# Altium schematic symbol library RPSLib_ADC_DAC.SchLib: 6 symbols
Pins are listed as number, name and electrical type; pins without a type are passive.

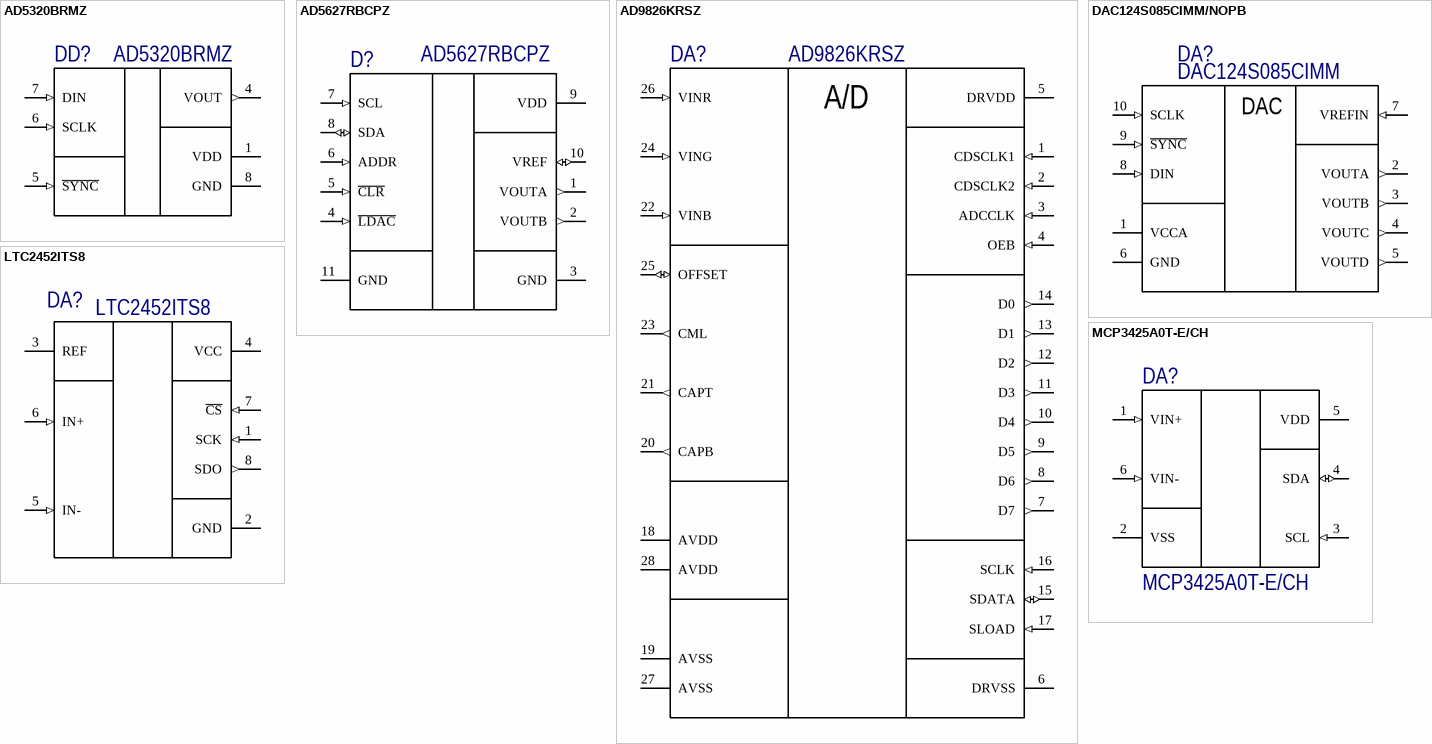
[diagram p0: symbols AD5320BRMZ to MCP3425A0T-E/CH]

## AD5320BRMZ
designator DD?
DAC 1-CH Resistor-String 12-bit 8-Pin MSOP Tube; Manufacturer: Analog Devices; Settling Time: 8us; Resolution: 12b; Integral Nonlinearity (INL): 16LSB; Conversion Rate: 125KS/s; Output Type: Voltage; Max Power Dissipation: 345uW; Interface: SPI,Serial; Number of Bits: 12; Number of Converters: 1; Max Supply Voltage: 5.5V; Min Supply Voltage: 2.7V; Differential Output: No; Slew Rate: 1V/µs; Polarity: Unipolar; Operating Supply Voltage: 5V; Nominal Supply Current: 140uA; Supplier 1: Digi-Key; Manufacturer Part Number: AD5320BRMZ; Stock 1: 186; Pricing 1: 1=7,04000, 10=6,36400, 25=6,06800, 100=5,26880, 250=5,03200, 500=4,58800, 1000=4,14400 (USD); RoHS: Yes; Case/Package: MSOP; Number of Pins: 8; Contact Plating: Tin,Matte; Min Operating Temperature: -40°C; Max Operating Temperature: 105°C; Packaging: Rail/Tube; Package Quantity: 50; Number of Channels: 1; Number of D/A Converters: 1; Sampling Rate: 125KS/s; Max Input Voltage: 5.5V; Min Input Voltage: 2.7V; Max Output Voltage: 5.5V; Min Output Voltage: 2.7V; Number of DAC Channels: 1; Number of Outputs: 1; Length: 3mm; Height: 0.85mm; Width: 3mm; Radiation Hardening: No; Lead Free: Contains Lead; REACH SVHC: No SVHC; ComponentLink1URL: https://datasheet.ciiva.com/26803/ad5320brmz-26803200.pdf?src-supplier=IIIC; ComponentLink1Description: https://datasheet.ciiva.com/26803/ad5320brmz-26803200.pdf?src-supplier=IIIC; ComponentLink2URL: https://datasheet.ciiva.com/1142/81071-1142242.pdf?src-supplier=Element14; ComponentLink2Description: https://datasheet.ciiva.com/1142/81071-1142242.pdf?src-supplier=Element14; ComponentLink3URL: https://datasheet.ciiva.com/1361/ad5320-1361204.pdf?src-supplier=Digi-Key; ComponentLink3Description: https://datasheet.ciiva.com/1361/ad5320-1361204.pdf?src-supplier=Digi-Key; ComponentLink4URL: https://datasheet.ciiva.com/25918/ad5320-25918166.pdf?src-supplier=Avnet+Europe; ComponentLink4Description: https://datasheet.ciiva.com/25918/ad5320-25918166.pdf?src-supplier=Avnet+Europe; ComponentLink5URL: https://datasheet.ciiva.com/3040/ad5320-3040255.pdf?src-supplier=Avnet; ComponentLink5Description: https://datasheet.ciiva.com/3040/ad5320-3040255.pdf?src-supplier=Avnet; ComponentLink6URL: https://datasheet.ciiva.com/48705/001246331-da-01-en-ic-dac-12bit-r-r-w-ad5320brmz-msop-8-adi-48705285.pdf?src-supplier=Conrad; ComponentLink6Description: https://datasheet.ciiva.com/48705/001246331-da-01-en-ic-dac-12bit-r-r-w-ad5320brmz-msop-8-adi-48705285.pdf?src-supplier=Conrad; Supplier Part Number 1: AD5320BRMZ-ND
footprint TSOP65P490X110-8N (TSOP, 8-Leads, Body 3,00x3,00mm, Pitch 0,65mm, IPC Medium Density)
pins: 1 VDD (power), 4 VOUT (out), 5 ~{SYNC} (in), 6 SCLK (in), 7 DIN (in), 8 GND (power)

## AD5627RBCPZ
designator D?
DAC 2-CH Resistor-String 12-bit 10-Pin LFCSP EP T/R; Manufacturer: Analog Devices; Manufacturer Part Number: AD5627RBCPZ-REEL7; Settling Time: 3us; Resolution: 12b; Conversion Rate: 333KS/s; Integral Nonlinearity (INL): 1LSB; Output Type: Voltage; Max Power Dissipation: 5.75mW; Number of DAC Channels: 2; Interface: I2C,Serial,2-Wire; Max Supply Voltage: 5.5V; Min Supply Voltage: 2.7V; Number of Bits: 12; Differential Output: No; Power Dissipation: 6.3mW; Min Output Voltage: 0uV; Slew Rate: 1.8V/µs; IIC Address: 00011aa; Supplier 1: Digi-Key; RoHS: Yes; Category: Digital to Analog Converters (DACs); Stock 1: 1366; Pricing 1: 1=6,55000, 10=5,88300, 25=5,56200, 100=4,57320, 250=4,10352, 500=3,95520 (USD); Case/Package: LFCSP EP; Number of Pins: 10; Min Operating Temperature: -40°C; Max Operating Temperature: 105°C; Package Quantity: 1500; Number of Channels: 2; Packaging: Tape and Reel; Number of D/A Converters: 2; Number of Converters: 2; Sampling Rate: 333KS/s; Max Input Voltage: 5.5V; Min Input Voltage: 2.7V; Max Output Voltage: 5.5V; REACH SVHC: No SVHC; Lead Free: Contains Lead; ComponentLink1URL: https://datasheet.ciiva.com/26805/ad5627rbcpz-reel7-26805947.pdf?src-supplier=IIIC; ComponentLink1Description: https://datasheet.ciiva.com/26805/ad5627rbcpz-reel7-26805947.pdf?src-supplier=IIIC; ComponentLink2URL: https://datasheet.ciiva.com/16599/ad5627r-5647r-5667r-5627-5667-16599173.pdf?src-supplier=Avnet+Europe; ComponentLink2Description: https://datasheet.ciiva.com/16599/ad5627r-5647r-5667r-5627-5667-16599173.pdf?src-supplier=Avnet+Europe; ComponentLink3URL: https://datasheet.ciiva.com/8191/ad5627r-5647r-5667r-5627-5667-8191870.pdf?src-supplier=Avnet; ComponentLink3Description: https://datasheet.ciiva.com/8191/ad5627r-5647r-5667r-5627-5667-8191870.pdf?src-supplier=Avnet; Supplier Part Number 1: AD5627RBCPZ-REEL7CT-ND
footprint SON50P300X80_HS-11N (SON, 10-Leads, Body 3,00x3,00mm, Pitch 0,50mm, Thermal Pad 2,36x1,49mm, IPC Medium Density)
pins: 1 VOUTA (out), 2 VOUTB (out), 3 GND (power), 4 ~{LDAC} (in), 5 ~{CLR} (in), 6 ADDR (in), 7 SCL (in), 8 SDA (io), 9 VDD, 10 VREF (io), 11 GND (power)

## AD9826KRSZ
designator DA?
IC IMAGE SGNL PROC 16BIT 28-SSOP; Manufacturer: Analog Devices; Operating Supply Voltage: 5V; Interface: Serial,Parallel; Resolution: 16b; Sampling Rate: 15MS/s; Number of Channels: 3; Max Supply Voltage: 5.25V; Min Supply Voltage: 4.75V; Number of A/D Converters: 1; Max Power Dissipation: 400mW; Differential Nonlinearity: 0.5LSB; Operating Supply Current: 80mA; Supplier 1: Digi-Key; Manufacturer Part Number: AD9826KRSZ; RoHS: Yes; Category: Optoelectronics; Stock 1: 1366; Pricing 1: 1=12,18000, 10=11,19400, 25=10,73000, 100=9,45400, 250=8,99000, 500=8,41000, 1000=7,83000 (USD); Mount: Surface Mount; Case/Package: SSOP; Number of Pins: 28; Min Operating Temperature: -40°C; Max Operating Temperature: 85°C; Packaging: Rail/Tube; Number of Converters: 1; Power Dissipation: 400mW; Package Quantity: 47; Length: 10.2mm; Height: 1.75mm; Width: 5.3mm; Radiation Hardening: No; Lead Free: Contains Lead; REACH SVHC: No SVHC; ComponentLink1URL: https://datasheet.ciiva.com/1611/ad9826-1611698.pdf?src-supplier=Newark; ComponentLink1Description: https://datasheet.ciiva.com/1611/ad9826-1611698.pdf?src-supplier=Newark; ComponentLink2URL: https://datasheet.ciiva.com/15373/ad9826-243709-15373659.pdf?src-supplier=Mouser; ComponentLink2Description: https://datasheet.ciiva.com/15373/ad9826-243709-15373659.pdf?src-supplier=Mouser; ComponentLink3URL: https://datasheet.ciiva.com/26838/ad9826krsz-26838956.pdf?src-supplier=IIIC; ComponentLink3Description: https://datasheet.ciiva.com/26838/ad9826krsz-26838956.pdf?src-supplier=IIIC; ComponentLink4URL: https://datasheet.ciiva.com/3026/ad9826-3026380.pdf?src-supplier=Avnet; ComponentLink4Description: https://datasheet.ciiva.com/3026/ad9826-3026380.pdf?src-supplier=Avnet; ComponentLink5URL: https://datasheet.ciiva.com/1781/ad9826-1781614.pdf?src-supplier=Digi-Key; ComponentLink5Description: https://datasheet.ciiva.com/1781/ad9826-1781614.pdf?src-supplier=Digi-Key; Supplier Part Number 1: AD9826KRSZ-ND
footprint SOP65P780X200-28N (SOP, 28-Leads, Body 10,20x5,30mm, Pitch 0,65mm, IPC Medium Density)
pins: 1 CDSCLK1 (in), 2 CDSCLK2 (in), 3 ADCCLK (in), 4 OEB (in), 5 DRVDD (power), 6 DRVSS (power), 7 D7 (out), 8 D6 (out), 9 D5 (out), 10 D4 (out), 11 D3 (out), 12 D2 (out), 13 D1 (out), 14 D0 (out), 15 SDATA (io), 16 SCLK (in), 17 SLOAD (in), 18 AVDD (power), 19 AVSS (power), 20 CAPB (out), 21 CAPT (out), 22 VINB (in), 23 CML (out), 24 VING (in), 25 OFFSET (io), 26 VINR (in), 27 AVSS (power), 28 AVDD (power)
text: A/D

## DAC124S085CIMM/NOPB
designator DA?, comment DAC124S085CIMM
TEXAS INSTRUMENTS - DAC124S085CIMM/NOPB - DIGITAL TO ANALOG CONVERTER DAC, 12 BIT, MSOP-10; Manufacturer: TI National Semiconductor; Settling Time: 8.5us; Resolution: 12b; Integral Nonlinearity (INL): 8LSB; Output Type: Voltage; Max Supply Voltage: 5.5V; Min Supply Voltage: 2.7V; Interface: SPI; Number of Channels: 4; Operating Supply Voltage: 5V; Number of Bits: 12; Polarity: Unipolar; Supply Type: Single; Power Consumption: 1.1mW; Nominal Supply Current: 480uA; Differential Nonlinearity: 2LSB; Supplier 1: Digi-Key; Manufacturer Part Number: DAC124S085CIMM/NOPB; Stock 1: 3369; Pricing 1: 1=6,47000, 10=5,84600, 100=4,62260, 500=3,94284 (USD); RoHS: Yes; Mount: Surface Mount; Case/Package: VSSOP; Number of Pins: 10; Weight: 0.000836oz; Contact Plating: Tin; Min Operating Temperature: -40°C; Max Operating Temperature: 105°C; Package Quantity: 1000; Packaging: Tape and Reel; Number of DAC Channels: 4; Number of Converters: 4; Max Power Dissipation: 1.1mW; Length: 3mm; Height: 0.86mm; Width: 3mm; Radiation Hardening: No; REACH SVHC: No SVHC; Lead Free: Lead Free; ComponentLink1URL: https://datasheet.ciiva.com/41460/001186509-da-01-en-ic-dac-1-dac124s085cimm-nopb-msop-10-tid-41460671.pdf?src-supplier=Conrad; ComponentLink1Description: https://datasheet.ciiva.com/41460/001186509-da-01-en-ic-dac-1-dac124s085cimm-nopb-msop-10-tid-41460671.pdf?src-supplier=Conrad; ComponentLink2URL: https://datasheet.ciiva.com/7632/1850953-7632325.pdf?src-supplier=Element14; ComponentLink2Description: https://datasheet.ciiva.com/7632/1850953-7632325.pdf?src-supplier=Element14; ComponentLink3URL: https://datasheet.ciiva.com/6666/dac124s085-6666502.pdf?src-supplier=Digi-Key; ComponentLink3Description: https://datasheet.ciiva.com/6666/dac124s085-6666502.pdf?src-supplier=Digi-Key; ComponentLink4URL: https://datasheet.ciiva.com/6666/dac124s085-6666505.pdf?src-supplier=Digi-Key; ComponentLink4Description: https://datasheet.ciiva.com/6666/dac124s085-6666505.pdf?src-supplier=Digi-Key; ComponentLink5URL: https://datasheet.ciiva.com/6666/dac124s085-6666507.pdf?src-supplier=Digi-Key; ComponentLink5Description: https://datasheet.ciiva.com/6666/dac124s085-6666507.pdf?src-supplier=Digi-Key; ComponentLink6URL: https://datasheet.ciiva.com/49118/1850953-49118555.pdf?src-supplier=Element14; ComponentLink6Description: https://datasheet.ciiva.com/49118/1850953-49118555.pdf?src-supplier=Element14; Supplier Part Number 1: DAC124S085CIMM/NOPBCT-ND
footprint TSSOP50P490X110-10N (TSSOP, 10-Leads, Body 3,00x3,00mm, Pitch 0,50mm, IPC Medium Density)
pins: 1 VCCA (power), 2 VOUTA (out), 3 VOUTB (out), 4 VOUTC (out), 5 VOUTD (out), 6 GND (power), 7 VREFIN (in), 8 DIN (in), 9 ~{SYNC} (in), 10 SCLK (in)
text: DAC

## LTC2452ITS8
designator DA?
LINEAR TECHNOLOGY         LTC2452ITS8#TRMPBF             Analogue to Digital Converter, 16 bit, 60 SPS, Single, 2.7 V, 5.5 V, TSOT-23; Manufacturer: Analog Devices / Linear Technology; Interface: SPI,Serial; Sampling Rate: 60S/s; Number of Bits: 16; Max Supply Voltage: 5.5V; Min Supply Voltage: 2.7V; Max Power Dissipation: 2.4mW; Number of Converters: 2; Number of Elements: 1; Resolution: 16b; Polarity: Bipolar; Integral Nonlinearity (INL): 10LSB; Nominal Supply Current: 800uA; Supplier 1: Digi-Key; Manufacturer Part Number: LTC2452ITS8#TRMPBF; Stock 1: 1375; Pricing 1: 1=3,86000, 25=2,77000, 100=2,28000, 250=2,18880 (USD); RoHS: Yes; Mount: Surface Mount; Case/Package: TSOT; Number of Pins: 8; Min Operating Temperature: -40°C; Max Operating Temperature: 85°C; Package Quantity: 500; Packaging: Cut Tape; Supply Type: Single; REACH SVHC: No SVHC; ComponentLink1URL: https://datasheet.ciiva.com/6665/26279-6665365.pdf?src-supplier=Digi-Key; ComponentLink1Description: https://datasheet.ciiva.com/6665/26279-6665365.pdf?src-supplier=Digi-Key; ComponentLink2URL: https://datasheet.ciiva.com/5784/1441932-5784422.pdf?src-supplier=Farnell; ComponentLink2Description: https://datasheet.ciiva.com/5784/1441932-5784422.pdf?src-supplier=Farnell; ComponentLink3URL: https://datasheet.ciiva.com/6665/26279-6665366.pdf?src-supplier=Digi-Key; ComponentLink3Description: https://datasheet.ciiva.com/6665/26279-6665366.pdf?src-supplier=Digi-Key; ComponentLink4URL: https://datasheet.ciiva.com/5784/1441932-5784423.pdf?src-supplier=Farnell; ComponentLink4Description: https://datasheet.ciiva.com/5784/1441932-5784423.pdf?src-supplier=Farnell; ComponentLink5URL: https://datasheet.ciiva.com/48709/001254082-da-01-en-ic-adc-ltc2452its8-trmpbf-tsot-23-8-ltc-48709735.pdf?src-supplier=Conrad; ComponentLink5Description: https://datasheet.ciiva.com/48709/001254082-da-01-en-ic-adc-ltc2452its8-trmpbf-tsot-23-8-ltc-48709735.pdf?src-supplier=Conrad; Supplier Part Number 1: LTC2452ITS8#TRMPBFCT-ND
footprint TSOP65P280X100-8N (TSOP, 8-Leads, Body 2,90x1,63mm, Pitch 0,65mm, IPC Medium Density)
pins: 1 SCK (in), 2 GND (power), 3 REF, 4 VCC (power), 5 IN- (in), 6 IN+ (in), 7 ~{CS} (in), 8 SDO (out)

## MCP3425A0T-E/CH
designator DA?
Analog to Digital Converters - ADC 16-B delta-sigma ADC Sngl Ch 15sps; Manufacturer: Microchip; Sampling Rate: 15S/s; Resolution: 16b; Number of Analog Inputs: 1; Polarity: Bipolar; Interface: I2C,Serial,2-Wire; Min Supply Voltage: 2.7V; Max Supply Voltage: 5.5V; Number of Bits: 16; Conversion Rate: 0.015KS/s; Nominal Supply Current: 155uA; Operating Supply Voltage: 5V; Supply Type: Single; IIC Address: 1101000; Supplier 1: Digi-Key; Manufacturer Part Number: MCP3425A0T-E/CH; RoHS: Yes; Category: Analog to Digital Converters (ADCs); Stock 1: 14696; Pricing 1: 1=2,17000, 25=1,81000 (USD); Mount: Surface Mount; Case/Package: SOT-23; Number of Pins: 6; Contact Plating: Tin,Matte; Min Operating Temperature: -40°C; Max Operating Temperature: 85°C; Number of Channels: 1; Package Quantity: 3000; Packaging: Tape and Reel; Number of Inputs: 1; Number of Converters: 1; Number of A/D Converters: 1; Number of Elements: 1; Termination: SMD/SMT; Length: 3.1mm; Height: 1.3mm; Width: 1.8mm; Radiation Hardening: No; REACH SVHC: No SVHC; Lead Free: Lead Free; ComponentLink1URL: https://datasheet.ciiva.com/4774/22072a-46165-4774881.pdf?src-supplier=Mouser; ComponentLink1Description: https://datasheet.ciiva.com/4774/22072a-46165-4774881.pdf?src-supplier=Mouser; ComponentLink2URL: https://datasheet.ciiva.com/22696/525051-22696391.pdf?src-supplier=Element14; ComponentLink2Description: https://datasheet.ciiva.com/22696/525051-22696391.pdf?src-supplier=Element14; ComponentLink3URL: https://datasheet.ciiva.com/8065/37966-8065868.pdf?src-supplier=Element14; ComponentLink3Description: https://datasheet.ciiva.com/8065/37966-8065868.pdf?src-supplier=Element14; ComponentLink4URL: https://datasheet.ciiva.com/6663/22072b-6663840.pdf?src-supplier=Digi-Key; ComponentLink4Description: https://datasheet.ciiva.com/6663/22072b-6663840.pdf?src-supplier=Digi-Key; ComponentLink5URL: https://datasheet.ciiva.com/3043/22072b-3043173.pdf?src-supplier=Avnet; ComponentLink5Description: https://datasheet.ciiva.com/3043/22072b-3043173.pdf?src-supplier=Avnet; ComponentLink6URL: https://datasheet.ciiva.com/14580/70046608-14580186.pdf?src-supplier=Allied+Electronics; ComponentLink6Description: https://datasheet.ciiva.com/14580/70046608-14580186.pdf?src-supplier=Allied+Electronics; ComponentLink7URL: https://datasheet.ciiva.com/6663/22072b-6663839.pdf?src-supplier=Digi-Key; ComponentLink7Description: https://datasheet.ciiva.com/6663/22072b-6663839.pdf?src-supplier=Digi-Key; Supplier Part Number 1: MCP3425A0T-E/CHCT-ND
footprint SOT95P280X145-6N (SOT23, 6-Leads, Body 2.92x2.80mm, Pitch 0.95mm, IPC Medium Density)
pins: 1 VIN+ (in), 2 VSS (power), 3 SCL (in), 4 SDA (io), 5 VDD (power), 6 VIN- (in)